# Altium integrated library ON Semi Zener Diodes.IntLib: 1366 symbols (part 6 of 29)
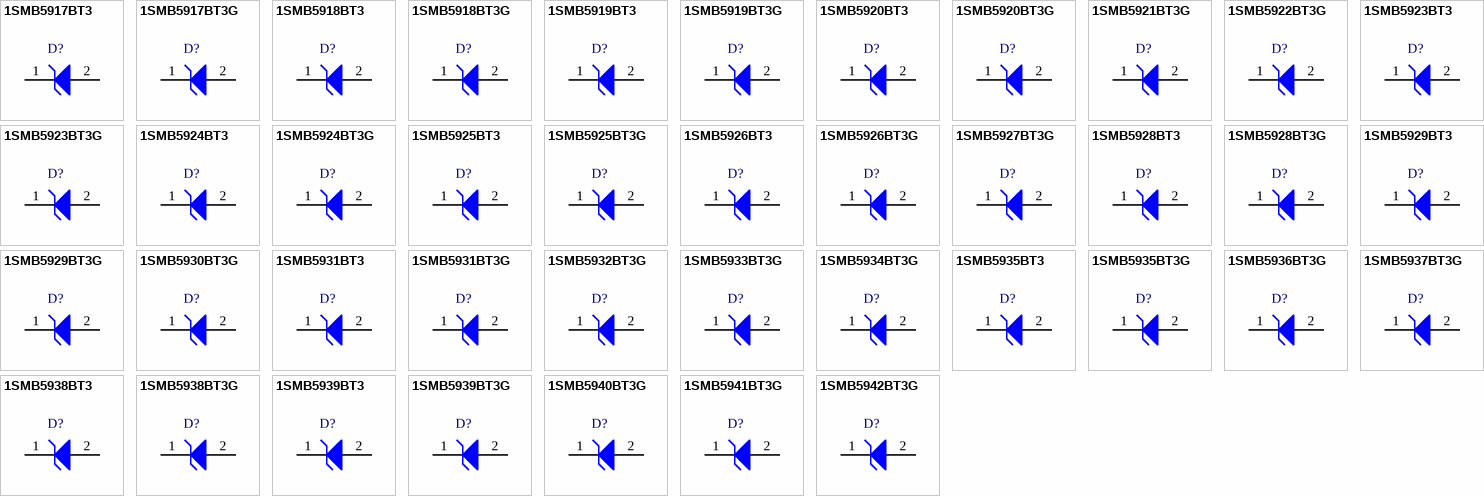
[diagram p49: symbols 1SMB5917BT3 to 1SMB5942BT3G]

## 1SMB5932BT3G
designator D?
3 W Zener Voltage Regulator, 2-Pin SMB, Pb-Free, Tape and Reel; Manufacturer: On Semiconductor; PartNumber: 1SMB5932BT3G; VZ Typ (V): 20; DatasheetVersion: Rev. 8; PackageVersion: Rev. H, 05/2011; PackageReference: SMB-2-403A-03_H; PackageDescription: 2-Pin Small Molded Package, J-Bend Lead, Body 4.33 x 3.625 mm; Supplier 1: Digi-Key; Supplier Part Number 1: 1SMB5932BT3GOSTR-ND; Supplier 2: Digi-Key; Supplier Part Number 2: 1SMB5932BT3GOSCT-ND; Supplier 3: Digi-Key; Supplier Part Number 3: 1SMB5932BT3GOSDKR-ND; Supplier 4: Farnell; Supplier Part Number 4: 1431174RL; Supplier 5: Farnell; Supplier Part Number 5: 1431174; Supplier 6: Newark; Supplier Part Number 6: 42K3097; Supplier 7: Mouser; Supplier Part Number 7: 863-1SMB5932BT3G; Packing: Tape and Reel; RoHS: Pb-Free; Mounting Technology: Surface Mount; ComponentLink1Description: Manufacturer URL; ComponentLink1URL: http://www.onsemi.com/; ComponentLink2Description: Datasheet; ComponentLink2URL: http://www.onsemi.com/pub_link/Collateral/1SMB5913BT3-D.PDF; ComponentLink3Description: Package Specification; ComponentLink3URL: http://www.onsemi.com/pub_link/Collateral/1SMB5913BT3-D.PDF
footprint ONSC-SMB-2-403A-03_H_V (Molded, 2-Leads, Body 4.6x3.95mm)
pins: 1 K, 2 A

## 1SMB5933BT3G
designator D?
3 W Zener Voltage Regulator, 2-Pin SMB, Pb-Free, Tape and Reel; Manufacturer: On Semiconductor; PartNumber: 1SMB5933BT3G; VZ Typ (V): 22; DatasheetVersion: Rev. 8; PackageVersion: Rev. H, 05/2011; PackageReference: SMB-2-403A-03_H; PackageDescription: 2-Pin Small Molded Package, J-Bend Lead, Body 4.33 x 3.625 mm; Supplier 1: Digi-Key; Supplier Part Number 1: 1SMB5933BT3GOSTR-ND; Supplier 2: Digi-Key; Supplier Part Number 2: 1SMB5933BT3GOSCT-ND; Supplier 3: Digi-Key; Supplier Part Number 3: 1SMB5933BT3GOSDKR-ND; Supplier 4: Newark; Supplier Part Number 4: 42K3098; Supplier 5: Mouser; Supplier Part Number 5: 863-1SMB5933BT3G; Packing: Tape and Reel; RoHS: Pb-Free; Mounting Technology: Surface Mount; ComponentLink1Description: Manufacturer URL; ComponentLink1URL: http://www.onsemi.com/; ComponentLink2Description: Datasheet; ComponentLink2URL: http://www.onsemi.com/pub_link/Collateral/1SMB5913BT3-D.PDF; ComponentLink3Description: Package Specification; ComponentLink3URL: http://www.onsemi.com/pub_link/Collateral/1SMB5913BT3-D.PDF
footprint ONSC-SMB-2-403A-03_H_V (Molded, 2-Leads, Body 4.6x3.95mm)
pins: 1 K, 2 A

## 1SMB5934BT3G
designator D?
3 W Zener Voltage Regulator, 2-Pin SMB, Pb-Free, Tape and Reel; Manufacturer: On Semiconductor; PartNumber: 1SMB5934BT3G; VZ Typ (V): 24; DatasheetVersion: Rev. 8; PackageVersion: Rev. H, 05/2011; PackageReference: SMB-2-403A-03_H; PackageDescription: 2-Pin Small Molded Package, J-Bend Lead, Body 4.33 x 3.625 mm; Supplier 1: Digi-Key; Supplier Part Number 1: 1SMB5934BT3GOSTR-ND; Supplier 2: Digi-Key; Supplier Part Number 2: 1SMB5934BT3GOSCT-ND; Supplier 3: Digi-Key; Supplier Part Number 3: 1SMB5934BT3GOSDKR-ND; Supplier 4: Farnell; Supplier Part Number 4: 1431176; Supplier 5: Farnell; Supplier Part Number 5: 2317731; Supplier 6: Farnell; Supplier Part Number 6: 1431176RL; Supplier 7: Newark; Supplier Part Number 7: 67R1412; Supplier 8: Newark; Supplier Part Number 8: 45J2456; Supplier 9: Mouser; Supplier Part Number 9: 863-1SMB5934BT3G; Packing: Tape and Reel; RoHS: Pb-Free; Mounting Technology: Surface Mount; ComponentLink1Description: Manufacturer URL; ComponentLink1URL: http://www.onsemi.com/; ComponentLink2Description: Datasheet; ComponentLink2URL: http://www.onsemi.com/pub_link/Collateral/1SMB5913BT3-D.PDF; ComponentLink3Description: Package Specification; ComponentLink3URL: http://www.onsemi.com/pub_link/Collateral/1SMB5913BT3-D.PDF
footprint ONSC-SMB-2-403A-03_H_V (Molded, 2-Leads, Body 4.6x3.95mm)
pins: 1 K, 2 A

## 1SMB5935BT3
designator D?
3 W Zener Voltage Regulator, 2-Pin SMB, Tape and Reel; Manufacturer: On Semiconductor; PartNumber: 1SMB5935BT3; VZ Typ (V): 27; DatasheetVersion: Rev. 8; PackageVersion: Rev. H, 05/2011; PackageReference: SMB-2-403A-03_H; PackageDescription: 2-Pin Small Molded Package, J-Bend Lead, Body 4.33 x 3.625 mm; Supplier 1: Digi-Key; Supplier Part Number 1: 1SMB5935BT3OSCT-ND; Supplier 2: Digi-Key; Supplier Part Number 2: 1SMB5935BT3OSDKR-ND; Packing: Tape and Reel; Mounting Technology: Surface Mount; ComponentLink1Description: Manufacturer URL; ComponentLink1URL: http://www.onsemi.com/; ComponentLink2Description: Datasheet; ComponentLink2URL: http://www.onsemi.com/pub_link/Collateral/1SMB5913BT3-D.PDF; ComponentLink3Description: Package Specification; ComponentLink3URL: http://www.onsemi.com/pub_link/Collateral/1SMB5913BT3-D.PDF
footprint ONSC-SMB-2-403A-03_H_V (Molded, 2-Leads, Body 4.6x3.95mm)
pins: 1 K, 2 A

## 1SMB5935BT3G
designator D?
3 W Zener Voltage Regulator, 2-Pin SMB, Pb-Free, Tape and Reel; Manufacturer: On Semiconductor; PartNumber: 1SMB5935BT3G; VZ Typ (V): 27; DatasheetVersion: Rev. 8; PackageVersion: Rev. H, 05/2011; PackageReference: SMB-2-403A-03_H; PackageDescription: 2-Pin Small Molded Package, J-Bend Lead, Body 4.33 x 3.625 mm; Supplier 1: Digi-Key; Supplier Part Number 1: 1SMB5935BT3GOSTR-ND; Supplier 2: Digi-Key; Supplier Part Number 2: 1SMB5935BT3GOSCT-ND; Supplier 3: Digi-Key; Supplier Part Number 3: 1SMB5935BT3GOSDKR-ND; Supplier 4: Farnell; Supplier Part Number 4: 1431177; Supplier 5: Farnell; Supplier Part Number 5: 1431177RL; Supplier 6: Newark; Supplier Part Number 6: 45J2457; Supplier 7: Mouser; Supplier Part Number 7: 863-1SMB5935BT3G; Packing: Tape and Reel; RoHS: Pb-Free; Mounting Technology: Surface Mount; ComponentLink1Description: Manufacturer URL; ComponentLink1URL: http://www.onsemi.com/; ComponentLink2Description: Datasheet; ComponentLink2URL: http://www.onsemi.com/pub_link/Collateral/1SMB5913BT3-D.PDF; ComponentLink3Description: Package Specification; ComponentLink3URL: http://www.onsemi.com/pub_link/Collateral/1SMB5913BT3-D.PDF
footprint ONSC-SMB-2-403A-03_H_V (Molded, 2-Leads, Body 4.6x3.95mm)
pins: 1 K, 2 A

## 1SMB5936BT3G
designator D?
3 W Zener Voltage Regulator, 2-Pin SMB, Pb-Free, Tape and Reel; Manufacturer: On Semiconductor; PartNumber: 1SMB5936BT3G; VZ Typ (V): 30; DatasheetVersion: Rev. 8; PackageVersion: Rev. H, 05/2011; PackageReference: SMB-2-403A-03_H; PackageDescription: 2-Pin Small Molded Package, J-Bend Lead, Body 4.33 x 3.625 mm; Supplier 1: Digi-Key; Supplier Part Number 1: 1SMB5936BT3GOSTR-ND; Supplier 2: Digi-Key; Supplier Part Number 2: 1SMB5936BT3GOSCT-ND; Supplier 3: Digi-Key; Supplier Part Number 3: 1SMB5936BT3GOSDKR-ND; Supplier 4: Farnell; Supplier Part Number 4: 1431178RL; Supplier 5: Newark; Supplier Part Number 5: 03P0571; Supplier 6: Newark; Supplier Part Number 6: 45J2458; Supplier 7: Mouser; Supplier Part Number 7: 863-1SMB5936BT3G; Packing: Tape and Reel; RoHS: Pb-Free; Mounting Technology: Surface Mount; ComponentLink1Description: Manufacturer URL; ComponentLink1URL: http://www.onsemi.com/; ComponentLink2Description: Datasheet; ComponentLink2URL: http://www.onsemi.com/pub_link/Collateral/1SMB5913BT3-D.PDF; ComponentLink3Description: Package Specification; ComponentLink3URL: http://www.onsemi.com/pub_link/Collateral/1SMB5913BT3-D.PDF
footprint ONSC-SMB-2-403A-03_H_V (Molded, 2-Leads, Body 4.6x3.95mm)
pins: 1 K, 2 A

## 1SMB5937BT3G
designator D?
3 W Zener Voltage Regulator, 2-Pin SMB, Pb-Free, Tape and Reel; Manufacturer: On Semiconductor; PartNumber: 1SMB5937BT3G; VZ Typ (V): 33; DatasheetVersion: Rev. 8; PackageVersion: Rev. H, 05/2011; PackageReference: SMB-2-403A-03_H; PackageDescription: 2-Pin Small Molded Package, J-Bend Lead, Body 4.33 x 3.625 mm; Supplier 1: Digi-Key; Supplier Part Number 1: 1SMB5937BT3GOSTR-ND; Supplier 2: Digi-Key; Supplier Part Number 2: 1SMB5937BT3GOSCT-ND; Supplier 3: Digi-Key; Supplier Part Number 3: 1SMB5937BT3GOSDKR-ND; Supplier 4: Farnell; Supplier Part Number 4: 1431179; Supplier 5: Farnell; Supplier Part Number 5: 1431179RL; Supplier 6: Farnell; Supplier Part Number 6: 2368412; Supplier 7: Newark; Supplier Part Number 7: 03P0575; Supplier 8: Newark; Supplier Part Number 8: 42K3099; Supplier 9: Mouser; Supplier Part Number 9: 863-1SMB5937BT3G; Packing: Tape and Reel; RoHS: Pb-Free; Mounting Technology: Surface Mount; ComponentLink1Description: Manufacturer URL; ComponentLink1URL: http://www.onsemi.com/; ComponentLink2Description: Datasheet; ComponentLink2URL: http://www.onsemi.com/pub_link/Collateral/1SMB5913BT3-D.PDF; ComponentLink3Description: Package Specification; ComponentLink3URL: http://www.onsemi.com/pub_link/Collateral/1SMB5913BT3-D.PDF
footprint ONSC-SMB-2-403A-03_H_V (Molded, 2-Leads, Body 4.6x3.95mm)
pins: 1 K, 2 A

## 1SMB5938BT3
designator D?
3 W Zener Voltage Regulator, 2-Pin SMB, Tape and Reel; Manufacturer: On Semiconductor; PartNumber: 1SMB5938BT3; VZ Typ (V): 36; DatasheetVersion: Rev. 8; PackageVersion: Rev. H, 05/2011; PackageReference: SMB-2-403A-03_H; PackageDescription: 2-Pin Small Molded Package, J-Bend Lead, Body 4.33 x 3.625 mm; Supplier 1: Digi-Key; Supplier Part Number 1: 1SMB5938BT3OSCT-ND; Supplier 2: Digi-Key; Supplier Part Number 2: 1SMB5938BT3OSDKR-ND; Packing: Tape and Reel; Mounting Technology: Surface Mount; ComponentLink1Description: Manufacturer URL; ComponentLink1URL: http://www.onsemi.com/; ComponentLink2Description: Datasheet; ComponentLink2URL: http://www.onsemi.com/pub_link/Collateral/1SMB5913BT3-D.PDF; ComponentLink3Description: Package Specification; ComponentLink3URL: http://www.onsemi.com/pub_link/Collateral/1SMB5913BT3-D.PDF
footprint ONSC-SMB-2-403A-03_H_V (Molded, 2-Leads, Body 4.6x3.95mm)
pins: 1 K, 2 A

## 1SMB5938BT3G
designator D?
3 W Zener Voltage Regulator, 2-Pin SMB, Pb-Free, Tape and Reel; Manufacturer: On Semiconductor; PartNumber: 1SMB5938BT3G; VZ Typ (V): 36; DatasheetVersion: Rev. 8; PackageVersion: Rev. H, 05/2011; PackageReference: SMB-2-403A-03_H; PackageDescription: 2-Pin Small Molded Package, J-Bend Lead, Body 4.33 x 3.625 mm; Supplier 1: Digi-Key; Supplier Part Number 1: 1SMB5938BT3GOSTR-ND; Supplier 2: Digi-Key; Supplier Part Number 2: 1SMB5938BT3GOSCT-ND; Supplier 3: Digi-Key; Supplier Part Number 3: 1SMB5938BT3GOSDKR-ND; Supplier 4: Farnell; Supplier Part Number 4: 1431180RL; Supplier 5: Farnell; Supplier Part Number 5: 1431180; Supplier 6: Newark; Supplier Part Number 6: 71J9219; Supplier 7: Mouser; Supplier Part Number 7: 863-1SMB5938BT3G; Packing: Tape and Reel; RoHS: Pb-Free; Mounting Technology: Surface Mount; ComponentLink1Description: Manufacturer URL; ComponentLink1URL: http://www.onsemi.com/; ComponentLink2Description: Datasheet; ComponentLink2URL: http://www.onsemi.com/pub_link/Collateral/1SMB5913BT3-D.PDF; ComponentLink3Description: Package Specification; ComponentLink3URL: http://www.onsemi.com/pub_link/Collateral/1SMB5913BT3-D.PDF
footprint ONSC-SMB-2-403A-03_H_V (Molded, 2-Leads, Body 4.6x3.95mm)
pins: 1 K, 2 A

## 1SMB5939BT3
designator D?
3 W Zener Voltage Regulator, 2-Pin SMB, Tape and Reel; Manufacturer: On Semiconductor; PartNumber: 1SMB5939BT3; VZ Typ (V): 39; DatasheetVersion: Rev. 8; PackageVersion: Rev. H, 05/2011; PackageReference: SMB-2-403A-03_H; PackageDescription: 2-Pin Small Molded Package, J-Bend Lead, Body 4.33 x 3.625 mm; Supplier 1: Digi-Key; Supplier Part Number 1: 1SMB5939BT3OSCT-ND; Supplier 2: Digi-Key; Supplier Part Number 2: 1SMB5939BT3OSDKR-ND; Packing: Tape and Reel; Mounting Technology: Surface Mount; ComponentLink1Description: Manufacturer URL; ComponentLink1URL: http://www.onsemi.com/; ComponentLink2Description: Datasheet; ComponentLink2URL: http://www.onsemi.com/pub_link/Collateral/1SMB5913BT3-D.PDF; ComponentLink3Description: Package Specification; ComponentLink3URL: http://www.onsemi.com/pub_link/Collateral/1SMB5913BT3-D.PDF
footprint ONSC-SMB-2-403A-03_H_V (Molded, 2-Leads, Body 4.6x3.95mm)
pins: 1 K, 2 A

## 1SMB5939BT3G
designator D?
3 W Zener Voltage Regulator, 2-Pin SMB, Pb-Free, Tape and Reel; Manufacturer: On Semiconductor; PartNumber: 1SMB5939BT3G; VZ Typ (V): 39; DatasheetVersion: Rev. 8; PackageVersion: Rev. H, 05/2011; PackageReference: SMB-2-403A-03_H; PackageDescription: 2-Pin Small Molded Package, J-Bend Lead, Body 4.33 x 3.625 mm; Supplier 1: Digi-Key; Supplier Part Number 1: 1SMB5939BT3GOSTR-ND; Supplier 2: Digi-Key; Supplier Part Number 2: 1SMB5939BT3GOSCT-ND; Supplier 3: Digi-Key; Supplier Part Number 3: 1SMB5939BT3GOSDKR-ND; Supplier 4: Newark; Supplier Part Number 4: 10N9664; Supplier 5: Mouser; Supplier Part Number 5: 863-1SMB5939BT3G; Packing: Tape and Reel; RoHS: Pb-Free; Mounting Technology: Surface Mount; ComponentLink1Description: Manufacturer URL; ComponentLink1URL: http://www.onsemi.com/; ComponentLink2Description: Datasheet; ComponentLink2URL: http://www.onsemi.com/pub_link/Collateral/1SMB5913BT3-D.PDF; ComponentLink3Description: Package Specification; ComponentLink3URL: http://www.onsemi.com/pub_link/Collateral/1SMB5913BT3-D.PDF
footprint ONSC-SMB-2-403A-03_H_V (Molded, 2-Leads, Body 4.6x3.95mm)
pins: 1 K, 2 A

## 1SMB5940BT3G
designator D?
3 W Zener Voltage Regulator, 2-Pin SMB, Pb-Free, Tape and Reel; Manufacturer: On Semiconductor; PartNumber: 1SMB5940BT3G; VZ Typ (V): 43; DatasheetVersion: Rev. 8; PackageVersion: Rev. H, 05/2011; PackageReference: SMB-2-403A-03_H; PackageDescription: 2-Pin Small Molded Package, J-Bend Lead, Body 4.33 x 3.625 mm; Supplier 1: Digi-Key; Supplier Part Number 1: 1SMB5940BT3GOSTR-ND; Supplier 2: Digi-Key; Supplier Part Number 2: 1SMB5940BT3GOSCT-ND; Supplier 3: Digi-Key; Supplier Part Number 3: 1SMB5940BT3GOSDKR-ND; Supplier 4: Newark; Supplier Part Number 4: 71J9220; Supplier 5: Newark; Supplier Part Number 5: 10N9665; Supplier 6: Mouser; Supplier Part Number 6: 863-1SMB5940BT3G; Packing: Tape and Reel; RoHS: Pb-Free; Mounting Technology: Surface Mount; ComponentLink1Description: Manufacturer URL; ComponentLink1URL: http://www.onsemi.com/; ComponentLink2Description: Datasheet; ComponentLink2URL: http://www.onsemi.com/pub_link/Collateral/1SMB5913BT3-D.PDF; ComponentLink3Description: Package Specification; ComponentLink3URL: http://www.onsemi.com/pub_link/Collateral/1SMB5913BT3-D.PDF
footprint ONSC-SMB-2-403A-03_H_V (Molded, 2-Leads, Body 4.6x3.95mm)
pins: 1 K, 2 A

## 1SMB5941BT3G
designator D?
3 W Zener Voltage Regulator, 2-Pin SMB, Pb-Free, Tape and Reel; Manufacturer: On Semiconductor; PartNumber: 1SMB5941BT3G; VZ Typ (V): 47; DatasheetVersion: Rev. 8; PackageVersion: Rev. H, 05/2011; PackageReference: SMB-2-403A-03_H; PackageDescription: 2-Pin Small Molded Package, J-Bend Lead, Body 4.33 x 3.625 mm; Supplier 1: Digi-Key; Supplier Part Number 1: 1SMB5941BT3GOSTR-ND; Supplier 2: Digi-Key; Supplier Part Number 2: 1SMB5941BT3GOSCT-ND; Supplier 3: Digi-Key; Supplier Part Number 3: 1SMB5941BT3GOSDKR-ND; Supplier 4: Farnell; Supplier Part Number 4: 1431181RL; Supplier 5: Mouser; Supplier Part Number 5: 863-1SMB5941BT3G; Packing: Tape and Reel; RoHS: Pb-Free; Mounting Technology: Surface Mount; ComponentLink1Description: Manufacturer URL; ComponentLink1URL: http://www.onsemi.com/; ComponentLink2Description: Datasheet; ComponentLink2URL: http://www.onsemi.com/pub_link/Collateral/1SMB5913BT3-D.PDF; ComponentLink3Description: Package Specification; ComponentLink3URL: http://www.onsemi.com/pub_link/Collateral/1SMB5913BT3-D.PDF
footprint ONSC-SMB-2-403A-03_H_V (Molded, 2-Leads, Body 4.6x3.95mm)
pins: 1 K, 2 A

## 1SMB5942BT3G
designator D?
3 W Zener Voltage Regulator, 2-Pin SMB, Pb-Free, Tape and Reel; Manufacturer: On Semiconductor; PartNumber: 1SMB5942BT3G; VZ Typ (V): 51; DatasheetVersion: Rev. 8; PackageVersion: Rev. H, 05/2011; PackageReference: SMB-2-403A-03_H; PackageDescription: 2-Pin Small Molded Package, J-Bend Lead, Body 4.33 x 3.625 mm; Supplier 1: Digi-Key; Supplier Part Number 1: 1SMB5942BT3GOSTR-ND; Supplier 2: Digi-Key; Supplier Part Number 2: 1SMB5942BT3GOSCT-ND; Supplier 3: Digi-Key; Supplier Part Number 3: 1SMB5942BT3GOSDKR-ND; Supplier 4: Farnell; Supplier Part Number 4: 1431182; Supplier 5: Farnell; Supplier Part Number 5: 1431182RL; Supplier 6: Newark; Supplier Part Number 6: 71J9221; Supplier 7: Mouser; Supplier Part Number 7: 863-1SMB5942BT3G; Packing: Tape and Reel; RoHS: Pb-Free; Mounting Technology: Surface Mount; ComponentLink1Description: Manufacturer URL; ComponentLink1URL: http://www.onsemi.com/; ComponentLink2Description: Datasheet; ComponentLink2URL: http://www.onsemi.com/pub_link/Collateral/1SMB5913BT3-D.PDF; ComponentLink3Description: Package Specification; ComponentLink3URL: http://www.onsemi.com/pub_link/Collateral/1SMB5913BT3-D.PDF
footprint ONSC-SMB-2-403A-03_H_V (Molded, 2-Leads, Body 4.6x3.95mm)
pins: 1 K, 2 A

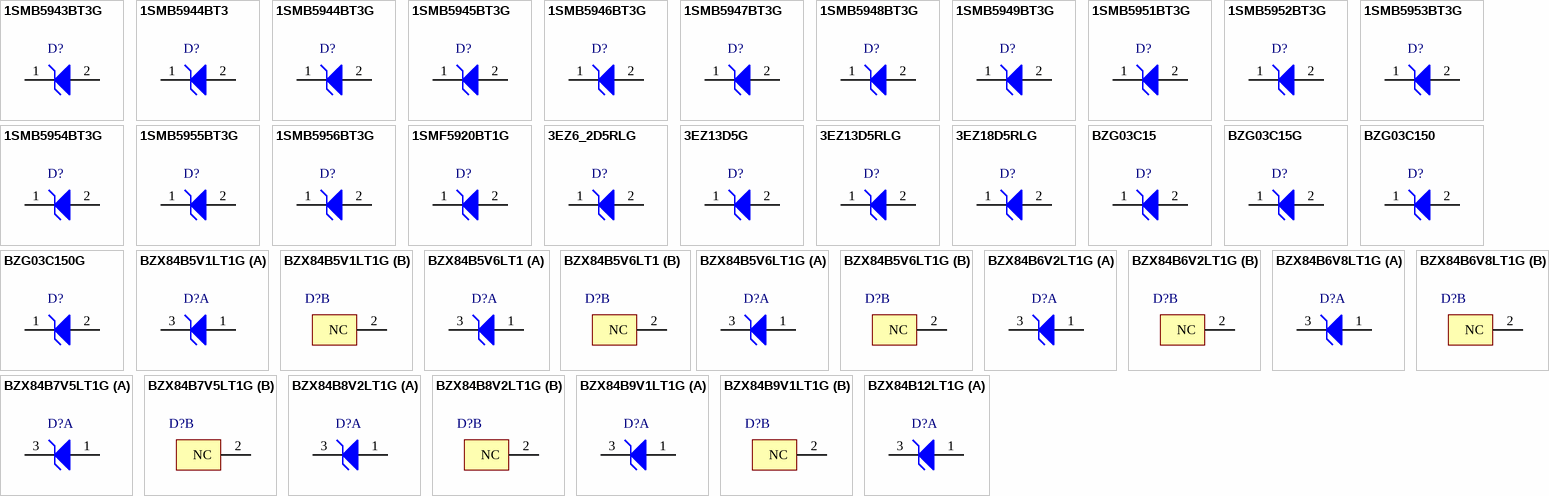
[diagram p6: symbols 1SMB5943BT3G to BZX84B12LT1G]

## 1SMB5943BT3G
designator D?
3 W Zener Voltage Regulator, 2-Pin SMB, Pb-Free, Tape and Reel; Manufacturer: On Semiconductor; PartNumber: 1SMB5943BT3G; VZ Typ (V): 56; DatasheetVersion: Rev. 8; PackageVersion: Rev. H, 05/2011; PackageReference: SMB-2-403A-03_H; PackageDescription: 2-Pin Small Molded Package, J-Bend Lead, Body 4.33 x 3.625 mm; Supplier 1: Digi-Key; Supplier Part Number 1: 1SMB5943BT3GOSTR-ND; Supplier 2: Digi-Key; Supplier Part Number 2: 1SMB5943BT3GOSCT-ND; Supplier 3: Digi-Key; Supplier Part Number 3: 1SMB5943BT3GOSDKR-ND; Supplier 4: Farnell; Supplier Part Number 4: 1431184; Supplier 5: Farnell; Supplier Part Number 5: 1431184RL; Supplier 6: Newark; Supplier Part Number 6: 10N9666; Supplier 7: Newark; Supplier Part Number 7: 45J2459; Supplier 8: Mouser; Supplier Part Number 8: 863-1SMB5943BT3G; Packing: Tape and Reel; RoHS: Pb-Free; Mounting Technology: Surface Mount; ComponentLink1Description: Manufacturer URL; ComponentLink1URL: http://www.onsemi.com/; ComponentLink2Description: Datasheet; ComponentLink2URL: http://www.onsemi.com/pub_link/Collateral/1SMB5913BT3-D.PDF; ComponentLink3Description: Package Specification; ComponentLink3URL: http://www.onsemi.com/pub_link/Collateral/1SMB5913BT3-D.PDF
footprint ONSC-SMB-2-403A-03_H_V (Molded, 2-Leads, Body 4.6x3.95mm)
pins: 1 K, 2 A

## 1SMB5944BT3
designator D?
3 W Zener Voltage Regulator, 2-Pin SMB, Tape and Reel; Manufacturer: On Semiconductor; PartNumber: 1SMB5944BT3; VZ Typ (V): 62; DatasheetVersion: Rev. 8; PackageVersion: Rev. H, 05/2011; PackageReference: SMB-2-403A-03_H; PackageDescription: 2-Pin Small Molded Package, J-Bend Lead, Body 4.33 x 3.625 mm; Supplier 1: Digi-Key; Supplier Part Number 1: 1SMB5944BT3-ND; Packing: Tape and Reel; Mounting Technology: Surface Mount; ComponentLink1Description: Manufacturer URL; ComponentLink1URL: http://www.onsemi.com/; ComponentLink2Description: Datasheet; ComponentLink2URL: http://www.onsemi.com/pub_link/Collateral/1SMB5913BT3-D.PDF; ComponentLink3Description: Package Specification; ComponentLink3URL: http://www.onsemi.com/pub_link/Collateral/1SMB5913BT3-D.PDF
footprint ONSC-SMB-2-403A-03_H_V (Molded, 2-Leads, Body 4.6x3.95mm)
pins: 1 K, 2 A

## 1SMB5944BT3G
designator D?
3 W Zener Voltage Regulator, 2-Pin SMB, Pb-Free, Tape and Reel; Manufacturer: On Semiconductor; PartNumber: 1SMB5944BT3G; VZ Typ (V): 62; DatasheetVersion: Rev. 8; PackageVersion: Rev. H, 05/2011; PackageReference: SMB-2-403A-03_H; PackageDescription: 2-Pin Small Molded Package, J-Bend Lead, Body 4.33 x 3.625 mm; Supplier 1: Digi-Key; Supplier Part Number 1: 1SMB5944BT3GOSTR-ND; Supplier 2: Digi-Key; Supplier Part Number 2: 1SMB5944BT3GOSCT-ND; Supplier 3: Digi-Key; Supplier Part Number 3: 1SMB5944BT3GOSDKR-ND; Supplier 4: Newark; Supplier Part Number 4: 71J9222; Supplier 5: Mouser; Supplier Part Number 5: 863-1SMB5944BT3G; Packing: Tape and Reel; RoHS: Pb-Free; Mounting Technology: Surface Mount; ComponentLink1Description: Manufacturer URL; ComponentLink1URL: http://www.onsemi.com/; ComponentLink2Description: Datasheet; ComponentLink2URL: http://www.onsemi.com/pub_link/Collateral/1SMB5913BT3-D.PDF; ComponentLink3Description: Package Specification; ComponentLink3URL: http://www.onsemi.com/pub_link/Collateral/1SMB5913BT3-D.PDF
footprint ONSC-SMB-2-403A-03_H_V (Molded, 2-Leads, Body 4.6x3.95mm)
pins: 1 K, 2 A

## 1SMB5945BT3G
designator D?
3 W Zener Voltage Regulator, 2-Pin SMB, Pb-Free, Tape and Reel; Manufacturer: On Semiconductor; PartNumber: 1SMB5945BT3G; VZ Typ (V): 68; DatasheetVersion: Rev. 8; PackageVersion: Rev. H, 05/2011; PackageReference: SMB-2-403A-03_H; PackageDescription: 2-Pin Small Molded Package, J-Bend Lead, Body 4.33 x 3.625 mm; Supplier 1: Digi-Key; Supplier Part Number 1: 1SMB5945BT3GOSTR-ND; Supplier 2: Digi-Key; Supplier Part Number 2: 1SMB5945BT3GOSCT-ND; Supplier 3: Digi-Key; Supplier Part Number 3: 1SMB5945BT3GOSDKR-ND; Supplier 4: Newark; Supplier Part Number 4: 10N9667; Supplier 5: Newark; Supplier Part Number 5: 71J9223; Supplier 6: Mouser; Supplier Part Number 6: 863-1SMB5945BT3G; Packing: Tape and Reel; RoHS: Pb-Free; Mounting Technology: Surface Mount; ComponentLink1Description: Manufacturer URL; ComponentLink1URL: http://www.onsemi.com/; ComponentLink2Description: Datasheet; ComponentLink2URL: http://www.onsemi.com/pub_link/Collateral/1SMB5913BT3-D.PDF; ComponentLink3Description: Package Specification; ComponentLink3URL: http://www.onsemi.com/pub_link/Collateral/1SMB5913BT3-D.PDF
footprint ONSC-SMB-2-403A-03_H_V (Molded, 2-Leads, Body 4.6x3.95mm)
pins: 1 K, 2 A

## 1SMB5946BT3G
designator D?
3 W Zener Voltage Regulator, 2-Pin SMB, Pb-Free, Tape and Reel; Manufacturer: On Semiconductor; PartNumber: 1SMB5946BT3G; VZ Typ (V): 75; DatasheetVersion: Rev. 8; PackageVersion: Rev. H, 05/2011; PackageReference: SMB-2-403A-03_H; PackageDescription: 2-Pin Small Molded Package, J-Bend Lead, Body 4.33 x 3.625 mm; Supplier 1: Digi-Key; Supplier Part Number 1: 1SMB5946BT3GOSTR-ND; Supplier 2: Digi-Key; Supplier Part Number 2: 1SMB5946BT3GOSCT-ND; Supplier 3: Digi-Key; Supplier Part Number 3: 1SMB5946BT3GOSDKR-ND; Supplier 4: Farnell; Supplier Part Number 4: 1431185; Supplier 5: Farnell; Supplier Part Number 5: 1431185RL; Supplier 6: Newark; Supplier Part Number 6: 59M4354; Supplier 7: Newark; Supplier Part Number 7: 10N9668; Supplier 8: Mouser; Supplier Part Number 8: 863-1SMB5946BT3G; Packing: Tape and Reel; RoHS: Pb-Free; Mounting Technology: Surface Mount; ComponentLink1Description: Manufacturer URL; ComponentLink1URL: http://www.onsemi.com/; ComponentLink2Description: Datasheet; ComponentLink2URL: http://www.onsemi.com/pub_link/Collateral/1SMB5913BT3-D.PDF; ComponentLink3Description: Package Specification; ComponentLink3URL: http://www.onsemi.com/pub_link/Collateral/1SMB5913BT3-D.PDF
footprint ONSC-SMB-2-403A-03_H_V (Molded, 2-Leads, Body 4.6x3.95mm)
pins: 1 K, 2 A

## 1SMB5947BT3G
designator D?
3 W Zener Voltage Regulator, 2-Pin SMB, Pb-Free, Tape and Reel; Manufacturer: On Semiconductor; PartNumber: 1SMB5947BT3G; VZ Typ (V): 82; DatasheetVersion: Rev. 8; PackageVersion: Rev. H, 05/2011; PackageReference: SMB-2-403A-03_H; PackageDescription: 2-Pin Small Molded Package, J-Bend Lead, Body 4.33 x 3.625 mm; Supplier 1: Digi-Key; Supplier Part Number 1: 1SMB5947BT3GOSTR-ND; Supplier 2: Digi-Key; Supplier Part Number 2: 1SMB5947BT3GOSCT-ND; Supplier 3: Digi-Key; Supplier Part Number 3: 1SMB5947BT3GOSDKR-ND; Supplier 4: Farnell; Supplier Part Number 4: 1887115; Supplier 5: Newark; Supplier Part Number 5: 09R9831; Supplier 6: Newark; Supplier Part Number 6: 71J9224; Supplier 7: Mouser; Supplier Part Number 7: 863-1SMB5947BT3G; Packing: Tape and Reel; RoHS: Pb-Free; Mounting Technology: Surface Mount; ComponentLink1Description: Manufacturer URL; ComponentLink1URL: http://www.onsemi.com/; ComponentLink2Description: Datasheet; ComponentLink2URL: http://www.onsemi.com/pub_link/Collateral/1SMB5913BT3-D.PDF; ComponentLink3Description: Package Specification; ComponentLink3URL: http://www.onsemi.com/pub_link/Collateral/1SMB5913BT3-D.PDF
footprint ONSC-SMB-2-403A-03_H_V (Molded, 2-Leads, Body 4.6x3.95mm)
pins: 1 K, 2 A

## 1SMB5948BT3G
designator D?
3 W Zener Voltage Regulator, 2-Pin SMB, Pb-Free, Tape and Reel; Manufacturer: On Semiconductor; PartNumber: 1SMB5948BT3G; VZ Typ (V): 91; DatasheetVersion: Rev. 8; PackageVersion: Rev. H, 05/2011; PackageReference: SMB-2-403A-03_H; PackageDescription: 2-Pin Small Molded Package, J-Bend Lead, Body 4.33 x 3.625 mm; Supplier 1: Digi-Key; Supplier Part Number 1: 1SMB5948BT3GOSTR-ND; Supplier 2: Digi-Key; Supplier Part Number 2: 1SMB5948BT3GOSCT-ND; Supplier 3: Digi-Key; Supplier Part Number 3: 1SMB5948BT3GOSDKR-ND; Supplier 4: Newark; Supplier Part Number 4: 71J9225; Supplier 5: Mouser; Supplier Part Number 5: 863-1SMB5948BT3G; Packing: Tape and Reel; RoHS: Pb-Free; Mounting Technology: Surface Mount; ComponentLink1Description: Manufacturer URL; ComponentLink1URL: http://www.onsemi.com/; ComponentLink2Description: Datasheet; ComponentLink2URL: http://www.onsemi.cn/pub_link/Collateral/1SMB5913BT3-D.PDF; ComponentLink3Description: Package Specification; ComponentLink3URL: http://www.onsemi.com/pub_link/Collateral/1SMB5913BT3-D.PDF
footprint ONSC-SMB-2-403A-03_H_V (Molded, 2-Leads, Body 4.6x3.95mm)
pins: 1 K, 2 A

## 1SMB5949BT3G
designator D?
3 W Zener Voltage Regulator, 2-Pin SMB, Pb-Free, Tape and Reel; Manufacturer: On Semiconductor; PartNumber: 1SMB5949BT3G; VZ Typ (V): 100; DatasheetVersion: Rev. 8; PackageVersion: Rev. H, 05/2011; PackageReference: SMB-2-403A-03_H; PackageDescription: 2-Pin Small Molded Package, J-Bend Lead, Body 4.33 x 3.625 mm; Supplier 1: Digi-Key; Supplier Part Number 1: 1SMB5949BT3GOSTR-ND; Supplier 2: Digi-Key; Supplier Part Number 2: 1SMB5949BT3GOSCT-ND; Supplier 3: Digi-Key; Supplier Part Number 3: 1SMB5949BT3GOSDKR-ND; Supplier 4: Farnell; Supplier Part Number 4: 1431186RL; Supplier 5: Farnell; Supplier Part Number 5: 1431186; Supplier 6: Newark; Supplier Part Number 6: 71J9226; Supplier 7: Mouser; Supplier Part Number 7: 863-1SMB5949BT3G; Packing: Tape and Reel; RoHS: Pb-Free; Mounting Technology: Surface Mount; ComponentLink1Description: Manufacturer URL; ComponentLink1URL: http://www.onsemi.com/; ComponentLink2Description: Datasheet; ComponentLink2URL: http://www.onsemi.com/pub_link/Collateral/1SMB5913BT3-D.PDF; ComponentLink3Description: Package Specification; ComponentLink3URL: http://www.onsemi.com/pub_link/Collateral/1SMB5913BT3-D.PDF
footprint ONSC-SMB-2-403A-03_H_V (Molded, 2-Leads, Body 4.6x3.95mm)
pins: 1 K, 2 A

## 1SMB5951BT3G
designator D?
3 W Zener Voltage Regulator, 2-Pin SMB, Pb-Free, Tape and Reel; Manufacturer: On Semiconductor; PartNumber: 1SMB5951BT3G; VZ Typ (V): 120; DatasheetVersion: Rev. 8; PackageVersion: Rev. H, 05/2011; PackageReference: SMB-2-403A-03_H; PackageDescription: 2-Pin Small Molded Package, J-Bend Lead, Body 4.33 x 3.625 mm; Supplier 1: Digi-Key; Supplier Part Number 1: 1SMB5951BT3GOSTR-ND; Supplier 2: Digi-Key; Supplier Part Number 2: 1SMB5951BT3GOSCT-ND; Supplier 3: Digi-Key; Supplier Part Number 3: 1SMB5951BT3GOSDKR-ND; Supplier 4: Newark; Supplier Part Number 4: 10N9669; Supplier 5: Newark; Supplier Part Number 5: 45J2460; Supplier 6: Mouser; Supplier Part Number 6: 863-1SMB5951BT3G; Packing: Tape and Reel; RoHS: Pb-Free; Mounting Technology: Surface Mount; ComponentLink1Description: Manufacturer URL; ComponentLink1URL: http://www.onsemi.com/; ComponentLink2Description: Datasheet; ComponentLink2URL: http://www.onsemi.com/pub_link/Collateral/1SMB5913BT3-D.PDF; ComponentLink3Description: Package Specification; ComponentLink3URL: http://www.onsemi.com/pub_link/Collateral/1SMB5913BT3-D.PDF
footprint ONSC-SMB-2-403A-03_H_V (Molded, 2-Leads, Body 4.6x3.95mm)
pins: 1 K, 2 A

## 1SMB5952BT3G
designator D?
3 W Zener Voltage Regulator, 2-Pin SMB, Pb-Free, Tape and Reel; Manufacturer: On Semiconductor; PartNumber: 1SMB5952BT3G; VZ Typ (V): 130; DatasheetVersion: Rev. 8; PackageVersion: Rev. H, 05/2011; PackageReference: SMB-2-403A-03_H; PackageDescription: 2-Pin Small Molded Package, J-Bend Lead, Body 4.33 x 3.625 mm; Supplier 1: Digi-Key; Supplier Part Number 1: 1SMB5952BT3GOSTR-ND; Supplier 2: Digi-Key; Supplier Part Number 2: 1SMB5952BT3GOSCT-ND; Supplier 3: Digi-Key; Supplier Part Number 3: 1SMB5952BT3GOSDKR-ND; Supplier 4: Farnell; Supplier Part Number 4: 1887116; Supplier 5: Newark; Supplier Part Number 5: 09R9833; Supplier 6: Newark; Supplier Part Number 6: 71J9228; Supplier 7: Mouser; Supplier Part Number 7: 863-1SMB5952BT3G; Packing: Tape and Reel; RoHS: Pb-Free; Mounting Technology: Surface Mount; ComponentLink1Description: Manufacturer URL; ComponentLink1URL: http://www.onsemi.com/; ComponentLink2Description: Datasheet; ComponentLink2URL: http://www.onsemi.com/pub_link/Collateral/1SMB5913BT3-D.PDF; ComponentLink3Description: Package Specification; ComponentLink3URL: http://www.onsemi.com/pub_link/Collateral/1SMB5913BT3-D.PDF
footprint ONSC-SMB-2-403A-03_H_V (Molded, 2-Leads, Body 4.6x3.95mm)
pins: 1 K, 2 A

## 1SMB5953BT3G
designator D?
3 W Zener Voltage Regulator, 2-Pin SMB, Pb-Free, Tape and Reel; Manufacturer: On Semiconductor; PartNumber: 1SMB5953BT3G; VZ Typ (V): 150; DatasheetVersion: Rev. 8; PackageVersion: Rev. H, 05/2011; PackageReference: SMB-2-403A-03_H; PackageDescription: 2-Pin Small Molded Package, J-Bend Lead, Body 4.33 x 3.625 mm; Supplier 1: Digi-Key; Supplier Part Number 1: 1SMB5953BT3GOSTR-ND; Supplier 2: Digi-Key; Supplier Part Number 2: 1SMB5953BT3GOSCT-ND; Supplier 3: Digi-Key; Supplier Part Number 3: 1SMB5953BT3GOSDKR-ND; Supplier 4: Newark; Supplier Part Number 4: 45J2461; Supplier 5: Mouser; Supplier Part Number 5: 863-1SMB5953BT3G; Packing: Tape and Reel; RoHS: Pb-Free; Mounting Technology: Surface Mount; ComponentLink1Description: Manufacturer URL; ComponentLink1URL: http://www.onsemi.com/; ComponentLink2Description: Datasheet; ComponentLink2URL: http://www.onsemi.cn/pub_link/Collateral/1SMB5913BT3-D.PDF; ComponentLink3Description: Package Specification; ComponentLink3URL: http://www.onsemi.com/pub_link/Collateral/1SMB5913BT3-D.PDF
footprint ONSC-SMB-2-403A-03_H_V (Molded, 2-Leads, Body 4.6x3.95mm)
pins: 1 K, 2 A

## 1SMB5954BT3G
designator D?
3 W Zener Voltage Regulator, 2-Pin SMB, Pb-Free, Tape and Reel; Manufacturer: On Semiconductor; PartNumber: 1SMB5954BT3G; VZ Typ (V): 160; DatasheetVersion: Rev. 8; PackageVersion: Rev. H, 05/2011; PackageReference: SMB-2-403A-03_H; PackageDescription: 2-Pin Small Molded Package, J-Bend Lead, Body 4.33 x 3.625 mm; Supplier 1: Digi-Key; Supplier Part Number 1: 1SMB5954BT3GOSTR-ND; Supplier 2: Digi-Key; Supplier Part Number 2: 1SMB5954BT3GOSCT-ND; Supplier 3: Digi-Key; Supplier Part Number 3: 1SMB5954BT3GOSDKR-ND; Supplier 4: Farnell; Supplier Part Number 4: 1887118; Supplier 5: Newark; Supplier Part Number 5: 09R9834; Supplier 6: Mouser; Supplier Part Number 6: 863-1SMB5954BT3G; Packing: Tape and Reel; RoHS: Pb-Free; Mounting Technology: Surface Mount; ComponentLink1Description: Manufacturer URL; ComponentLink1URL: http://www.onsemi.com/; ComponentLink2Description: Datasheet; ComponentLink2URL: http://www.onsemi.com/pub_link/Collateral/1SMB5913BT3-D.PDF; ComponentLink3Description: Package Specification; ComponentLink3URL: http://www.onsemi.com/pub_link/Collateral/1SMB5913BT3-D.PDF
footprint ONSC-SMB-2-403A-03_H_V (Molded, 2-Leads, Body 4.6x3.95mm)
pins: 1 K, 2 A

## 1SMB5955BT3G
designator D?
3 W Zener Voltage Regulator, 2-Pin SMB, Pb-Free, Tape and Reel; Manufacturer: On Semiconductor; PartNumber: 1SMB5955BT3G; VZ Typ (V): 180; DatasheetVersion: Rev. 8; PackageVersion: Rev. H, 05/2011; PackageReference: SMB-2-403A-03_H; PackageDescription: 2-Pin Small Molded Package, J-Bend Lead, Body 4.33 x 3.625 mm; Supplier 1: Digi-Key; Supplier Part Number 1: 1SMB5955BT3GOSTR-ND; Supplier 2: Digi-Key; Supplier Part Number 2: 1SMB5955BT3GOSCT-ND; Supplier 3: Digi-Key; Supplier Part Number 3: 1SMB5955BT3GOSDKR-ND; Supplier 4: Farnell; Supplier Part Number 4: 2371147; Supplier 5: Newark; Supplier Part Number 5: 10N9670; Supplier 6: Mouser; Supplier Part Number 6: 863-1SMB5955BT3G; Packing: Tape and Reel; RoHS: Pb-Free; Mounting Technology: Surface Mount; ComponentLink1Description: Manufacturer URL; ComponentLink1URL: http://www.onsemi.com/; ComponentLink2Description: Datasheet; ComponentLink2URL: http://www.onsemi.com/pub_link/Collateral/1SMB5913BT3-D.PDF; ComponentLink3Description: Package Specification; ComponentLink3URL: http://www.onsemi.com/pub_link/Collateral/1SMB5913BT3-D.PDF
footprint ONSC-SMB-2-403A-03_H_V (Molded, 2-Leads, Body 4.6x3.95mm)
pins: 1 K, 2 A

## 1SMB5956BT3G
designator D?
3 W Zener Voltage Regulator, 2-Pin SMB, Pb-Free, Tape and Reel; Manufacturer: On Semiconductor; PartNumber: 1SMB5956BT3G; VZ Typ (V): 200; DatasheetVersion: Rev. 8; PackageVersion: Rev. H, 05/2011; PackageReference: SMB-2-403A-03_H; PackageDescription: 2-Pin Small Molded Package, J-Bend Lead, Body 4.33 x 3.625 mm; Supplier 1: Digi-Key; Supplier Part Number 1: 1SMB5956BT3GOSTR-ND; Supplier 2: Digi-Key; Supplier Part Number 2: 1SMB5956BT3GOSCT-ND; Supplier 3: Digi-Key; Supplier Part Number 3: 1SMB5956BT3GOSDKR-ND; Supplier 4: Farnell; Supplier Part Number 4: 1431189; Supplier 5: Farnell; Supplier Part Number 5: 1431189RL; Supplier 6: Newark; Supplier Part Number 6: 83H7918; Supplier 7: Mouser; Supplier Part Number 7: 863-1SMB5956BT3G; Packing: Tape and Reel; RoHS: Pb-Free; Mounting Technology: Surface Mount; ComponentLink1Description: Manufacturer URL; ComponentLink1URL: http://www.onsemi.com/; ComponentLink2Description: Datasheet; ComponentLink2URL: http://www.onsemi.com/pub_link/Collateral/1SMB5913BT3-D.PDF; ComponentLink3Description: Package Specification; ComponentLink3URL: http://www.onsemi.com/pub_link/Collateral/1SMB5913BT3-D.PDF
footprint ONSC-SMB-2-403A-03_H_V (Molded, 2-Leads, Body 4.6x3.95mm)
pins: 1 K, 2 A

## 1SMF5920BT1G
designator D?
2.5 W Zener Diode, 2-Pin SOD123, Pb-Free, Tape and Reel; Manufacturer: On Semiconductor; PartNumber: 1SMF5920BT1G; VZ Typ (V): 6.2; DatasheetVersion: Rev. P0; PackageVersion: Rev. A; PackageReference: SOD-123-2-498_A; PackageDescription: 2-Pin SOD, Body 1.65 x 2.7 mm; Supplier 1: Digi-Key; Supplier Part Number 1: 1SMF5920BT1G-ND; Supplier 2: Mouser; Supplier Part Number 2: 863-1SMF5920BT1G; Packing: Tape and Reel; RoHS: Pb-Free; Mounting Technology: Surface Mount; ComponentLink1Description: Manufacturer URL; ComponentLink1URL: http://www.onsemi.com/; ComponentLink2Description: Datasheet; ComponentLink2URL: http://www.onsemi.cn/pub_link/Collateral/1SMF5920B-D.PDF; ComponentLink3Description: Package Specification; ComponentLink3URL: http://www.onsemi.cn/pub_link/Collateral/1SMF5920B-D.PDF
footprint ONSC-SOD123-2-498_A_V (SOD, 2-Leads, Body 2.7x1.65mm)
pins: 1 K, 2 A

## 3EZ6_2D5RLG
designator D?
3 W Zener Voltage Regulator, 2-Pin Axial_Lead, Pb-Free, Tape and Reel; Manufacturer: On Semiconductor; PartNumber: 3EZ6_2D5RLG; VZ Typ (V): 6.2; DatasheetVersion: Rev. 0; PackageVersion: Rev. U, 02/2005; PackageReference: AXIAL_LEAD-2-59-10; PackageDescription: 2-Pin, Axial Lead, Diameter 2.35 mm; Packing: Tape and Reel; RoHS: Pb-Free; Mounting Technology: Through Hole; ComponentLink1Description: Manufacturer URL; ComponentLink1URL: http://www.onsemi.com/; ComponentLink2Description: Datasheet; ComponentLink2URL: http://www.onsemi.com/pub_link/Collateral/3EZ6.2D5-D.PDF; ComponentLink3Description: Package Specification; ComponentLink3URL: http://www.onsemi.cn/pub_link/Collateral/59-10.PDF
footprint ONSC-AXIAL_LEAD-2-59-10_P (AXIAL, 2-Leads, Diameter 2.35mm)
pins: 1 K, 2 A

## 3EZ13D5G
designator D?
3 W Zener Voltage Regulator, 2-Pin Axial_Lead, Pb-Free, Bulk Box; Manufacturer: On Semiconductor; PartNumber: 3EZ13D5G; VZ Typ (V): 13; DatasheetVersion: Rev. 0; PackageVersion: Rev. U, 02/2005; PackageReference: AXIAL_LEAD-2-59-10; PackageDescription: 2-Pin, Axial Lead, Diameter 2.35 mm; Supplier 1: Digi-Key; Supplier Part Number 1: 3EZ13D5G-ND; Supplier 2: Newark; Supplier Part Number 2: 42K3199; Supplier 3: Mouser; Supplier Part Number 3: 863-3EZ13D5G; Packing: Bulk Box; RoHS: Pb-Free; Mounting Technology: Through Hole; ComponentLink1Description: Manufacturer URL; ComponentLink1URL: http://www.onsemi.com/; ComponentLink2Description: Datasheet; ComponentLink2URL: http://www.onsemi.com/pub_link/Collateral/3EZ6.2D5-D.PDF; ComponentLink3Description: Package Specification; ComponentLink3URL: http://www.onsemi.cn/pub_link/Collateral/59-10.PDF
footprint ONSC-AXIAL_LEAD-2-59-10_P (AXIAL, 2-Leads, Diameter 2.35mm)
pins: 1 K, 2 A

## 3EZ13D5RLG
designator D?
3 W Zener Voltage Regulator, 2-Pin Axial_Lead, Pb-Free, Tape and Reel; Manufacturer: On Semiconductor; PartNumber: 3EZ13D5RLG; VZ Typ (V): 13; DatasheetVersion: Rev. 0; PackageVersion: Rev. U, 02/2005; PackageReference: AXIAL_LEAD-2-59-10; PackageDescription: 2-Pin, Axial Lead, Diameter 2.35 mm; Supplier 1: Digi-Key; Supplier Part Number 1: 3EZ13D5RLG-ND; Supplier 2: Mouser; Supplier Part Number 2: 863-3EZ13D5RLG; Packing: Tape and Reel; RoHS: Pb-Free; Mounting Technology: Through Hole; ComponentLink1Description: Manufacturer URL; ComponentLink1URL: http://www.onsemi.com/; ComponentLink2Description: Datasheet; ComponentLink2URL: http://www.onsemi.com/pub_link/Collateral/3EZ6.2D5-D.PDF; ComponentLink3Description: Package Specification; ComponentLink3URL: http://www.onsemi.cn/pub_link/Collateral/59-10.PDF
footprint ONSC-AXIAL_LEAD-2-59-10_P (AXIAL, 2-Leads, Diameter 2.35mm)
pins: 1 K, 2 A

## 3EZ18D5RLG
designator D?
3 W Zener Voltage Regulator, 2-Pin Axial_Lead, Pb-Free, Tape and Reel; Manufacturer: On Semiconductor; PartNumber: 3EZ18D5RLG; VZ Typ (V): 18; DatasheetVersion: Rev. 0; PackageVersion: Rev. U, 02/2005; PackageReference: AXIAL_LEAD-2-59-10; PackageDescription: 2-Pin, Axial Lead, Diameter 2.35 mm; Supplier 1: Digi-Key; Supplier Part Number 1: 3EZ18D5RLGOSTR-ND; Supplier 2: Digi-Key; Supplier Part Number 2: 3EZ18D5RLGOSCT-ND; Supplier 3: Mouser; Supplier Part Number 3: 863-3EZ18D5RLG; Packing: Tape and Reel; RoHS: Pb-Free; Mounting Technology: Through Hole; ComponentLink1Description: Manufacturer URL; ComponentLink1URL: http://www.onsemi.com/; ComponentLink2Description: Datasheet; ComponentLink2URL: http://www.onsemi.com/pub_link/Collateral/3EZ6.2D5-D.PDF; ComponentLink3Description: Package Specification; ComponentLink3URL: http://www.onsemi.cn/pub_link/Collateral/59-10.PDF
footprint ONSC-AXIAL_LEAD-2-59-10_P (AXIAL, 2-Leads, Diameter 2.35mm)
pins: 1 K, 2 A

## BZG03C15
designator D?
600 W Peak Power Zener Surge Rated Voltage Regulator, 2-Pin SMA, Tape and Reel; Manufacturer: On Semiconductor; PartNumber: BZG03C15; P Max (W): 1.5; VZ Typ (V): 15; DatasheetVersion: Rev. 4; PackageVersion: Rev. G, 07/2012; PackageReference: SMA-2-403D-02; PackageDescription: 2-Pin Small Molded Package, J-Bend Lead, Body 2.605 x 4.315 mm; Supplier 1: Digi-Key; Supplier Part Number 1: BZG03C15OSTR-ND; Supplier 2: Digi-Key; Supplier Part Number 2: BZG03C15OSCT-ND; Supplier 3: Digi-Key; Supplier Part Number 3: BZG03C15OSDKR-ND; Packing: Tape and Reel; Mounting Technology: Surface Mount; ComponentLink1Description: Manufacturer URL; ComponentLink1URL: http://www.onsemi.com/; ComponentLink2Description: Datasheet; ComponentLink2URL: http://www.onsemi.com/pub_link/Collateral/BZG03C15-D.PDF; ComponentLink3Description: Package Specification; ComponentLink3URL: http://www.onsemi.com/pub_link/Collateral/403D-02.PDF
footprint ONSC-SMA-2-403D-02_V (Molded, 2-Leads, Body 4.57x2.92mm)
pins: 1 K, 2 A

## BZG03C15G
designator D?
600 W Peak Power Zener Surge Rated Voltage Regulator, 2-Pin SMA, Pb-Free, Tape and Reel; Manufacturer: On Semiconductor; PartNumber: BZG03C15G; P Max (W): 1.5; VZ Typ (V): 15; DatasheetVersion: Rev. 4; PackageVersion: Rev. C, 08/2005; PackageReference: SMA-2-403D-02_C; PackageDescription: 2-Pin Small Molded Package, J-Bend Lead, Body 4.315 x 2.605 mm; Supplier 1: Digi-Key; Supplier Part Number 1: BZG03C15GOSTR-ND; Supplier 2: Digi-Key; Supplier Part Number 2: BZG03C15GOSCT-ND; Supplier 3: Digi-Key; Supplier Part Number 3: BZG03C15GOSDKR-ND; Supplier 4: Newark; Supplier Part Number 4: 10N9694; Supplier 5: Newark; Supplier Part Number 5: 45J0629; Supplier 6: Mouser; Supplier Part Number 6: 863-BZG03C15G; Packing: Tape and Reel; RoHS: Pb-Free; Mounting Technology: Surface Mount; ComponentLink1Description: Manufacturer URL; ComponentLink1URL: http://www.onsemi.com/; ComponentLink2Description: Datasheet; ComponentLink2URL: http://www.onsemi.com/pub_link/Collateral/BZG03C15-D.PDF; ComponentLink3Description: Package Specification; ComponentLink3URL: http://www.onsemi.com/pub_link/Collateral/MBRA320-D.PDF
footprint ONSC-SMA-2-403D-02_C_V (Molded, 2-Leads, Body 4.57x2.92mm)
pins: 1 K, 2 A

## BZG03C150
designator D?
600 W Peak Power Zener Surge Rated Voltage Regulator, 2-Pin SMA, Tape and Reel; Manufacturer: On Semiconductor; PartNumber: BZG03C150; P Max (W): 1.5; VZ Typ (V): 150; DatasheetVersion: Rev. 4; PackageVersion: Rev. G, 07/2012; PackageReference: SMA-2-403D-02; PackageDescription: 2-Pin Small Molded Package, J-Bend Lead, Body 2.605 x 4.315 mm; Supplier 1: Digi-Key; Supplier Part Number 1: BZG03C150OSTR-ND; Supplier 2: Digi-Key; Supplier Part Number 2: BZG03C150OSCT-ND; Supplier 3: Digi-Key; Supplier Part Number 3: BZG03C150OSDKR-ND; Packing: Tape and Reel; Mounting Technology: Surface Mount; ComponentLink1Description: Manufacturer URL; ComponentLink1URL: http://www.onsemi.com/; ComponentLink2Description: Datasheet; ComponentLink2URL: http://www.onsemi.com/pub_link/Collateral/BZG03C15-D.PDF; ComponentLink3Description: Package Specification; ComponentLink3URL: http://www.onsemi.com/pub_link/Collateral/403D-02.PDF
footprint ONSC-SMA-2-403D-02_V (Molded, 2-Leads, Body 4.57x2.92mm)
pins: 1 K, 2 A

## BZG03C150G
designator D?
600 W Peak Power Zener Surge Rated Voltage Regulator, 2-Pin SMA, Pb-Free, Tape and Reel; Manufacturer: On Semiconductor; PartNumber: BZG03C150G; P Max (W): 1.5; VZ Typ (V): 150; DatasheetVersion: Rev. 4; PackageVersion: Rev. G, 07/2012; PackageReference: SMA-2-403D-02; PackageDescription: 2-Pin Small Molded Package, J-Bend Lead, Body 2.605 x 4.315 mm; Supplier 1: Digi-Key; Supplier Part Number 1: BZG03C150GOSTR-ND; Supplier 2: Digi-Key; Supplier Part Number 2: BZG03C150GOSCT-ND; Supplier 3: Digi-Key; Supplier Part Number 3: BZG03C150GOSDKR-ND; Supplier 4: Farnell; Supplier Part Number 4: 2369428; Supplier 5: Newark; Supplier Part Number 5: 45J0630; Supplier 6: Newark; Supplier Part Number 6: 10N9695; Supplier 7: Mouser; Supplier Part Number 7: 863-BZG03C150G; Packing: Tape and Reel; RoHS: Pb-Free; Mounting Technology: Surface Mount; ComponentLink1Description: Manufacturer URL; ComponentLink1URL: http://www.onsemi.com/; ComponentLink2Description: Datasheet; ComponentLink2URL: http://www.onsemi.com/pub_link/Collateral/BZG03C15-D.PDF; ComponentLink3Description: Package Specification; ComponentLink3URL: http://www.onsemi.com/pub_link/Collateral/403D-02.PDF
footprint ONSC-SMA-2-403D-02_V (Molded, 2-Leads, Body 4.57x2.92mm)
pins: 1 K, 2 A

## BZX84B5V1LT1G
designator D?
Zener Voltage Regulator, 225 mW, 3-Pin SOT-23, Pb-Free, Tape and Reel; Manufacturer: On Semiconductor; PartNumber: BZX84B5V1LT1G; VZ Typ (V): 5.1; DatasheetVersion: Rev. 17; PackageVersion: Rev. AP, 11/2009; PackageReference: SOT-23-3-318-08; PackageDescription: 3-Pin Small Outline Transistor, Body 2.92 x 1.3 mm, Pitch 0.95 mm; Supplier 1: Digi-Key; Supplier Part Number 1: BZX84B5V1LT1GOSTR-ND; Supplier 2: Digi-Key; Supplier Part Number 2: BZX84B5V1LT1GOSCT-ND; Supplier 3: Digi-Key; Supplier Part Number 3: BZX84B5V1LT1GOSDKR-ND; Supplier 4: Newark; Supplier Part Number 4: 10N9393; Supplier 5: Newark; Supplier Part Number 5: 71J3484; Supplier 6: Mouser; Supplier Part Number 6: 863-BZX84B5V1LT1G; Packing: Tape and Reel; RoHS: Pb-Free; Mounting Technology: Surface Mount; ComponentLink1Description: Manufacturer URL; ComponentLink1URL: http://www.onsemi.com/; ComponentLink2Description: Datasheet; ComponentLink2URL: http://www.onsemi.com/pub_link/Collateral/BZX84C2V4LT1-D.PDF; ComponentLink3Description: Package Specification; ComponentLink3URL: http://www.onsemi.cn/pub_link/Collateral/318-08.PDF
footprint ONSC-SOT-23-3-318-08_V (SOT23, 3-Leads, Body 2.92x1.3mm, Pitch 0.95mm)
part A pins: 1 A, 3 K
part B pins: 2 NC

## BZX84B5V6LT1
designator D?
Zener Voltage Regulator, 225 mW, 3-Pin SOT-23, Tape and Reel; Manufacturer: On Semiconductor; PartNumber: BZX84B5V6LT1; VZ Typ (V): 5.6; DatasheetVersion: Rev. 17; PackageVersion: Rev. AP, 11/2009; PackageReference: SOT-23-3-318-08; PackageDescription: 3-Pin Small Outline Transistor, Body 2.92 x 1.3 mm, Pitch 0.95 mm; Supplier 1: Digi-Key; Supplier Part Number 1: BZX84B5V6LT1OSTR-ND; Supplier 2: Digi-Key; Supplier Part Number 2: BZX84B5V6LT1OSCT-ND; Supplier 3: Mouser; Supplier Part Number 3: 863-BZX84B5V6LT1; Packing: Tape and Reel; Mounting Technology: Surface Mount; ComponentLink1Description: Manufacturer URL; ComponentLink1URL: http://www.onsemi.com/; ComponentLink2Description: Datasheet; ComponentLink2URL: http://www.onsemi.com/pub_link/Collateral/BZX84C2V4LT1-D.PDF; ComponentLink3Description: Package Specification; ComponentLink3URL: http://www.onsemi.cn/pub_link/Collateral/318-08.PDF
footprint ONSC-SOT-23-3-318-08_V (SOT23, 3-Leads, Body 2.92x1.3mm, Pitch 0.95mm)
part A pins: 1 A, 3 K
part B pins: 2 NC

## BZX84B5V6LT1G
designator D?
Zener Voltage Regulator, 225 mW, 3-Pin SOT-23, Pb-Free, Tape and Reel; Manufacturer: On Semiconductor; PartNumber: BZX84B5V6LT1G; VZ Typ (V): 5.6; DatasheetVersion: Rev. 17; PackageVersion: Rev. AP, 11/2009; PackageReference: SOT-23-3-318-08; PackageDescription: 3-Pin Small Outline Transistor, Body 2.92 x 1.3 mm, Pitch 0.95 mm; Supplier 1: Digi-Key; Supplier Part Number 1: BZX84B5V6LT1GOSTR-ND; Supplier 2: Digi-Key; Supplier Part Number 2: BZX84B5V6LT1GOSCT-ND; Supplier 3: Digi-Key; Supplier Part Number 3: BZX84B5V6LT1GOSDKR-ND; Supplier 4: Farnell; Supplier Part Number 4: 2317756; Supplier 5: Farnell; Supplier Part Number 5: 2317475; Supplier 6: Newark; Supplier Part Number 6: 41K9635; Supplier 7: Newark; Supplier Part Number 7: 10N9394; Supplier 8: Mouser; Supplier Part Number 8: 863-BZX84B5V6LT1G; Packing: Tape and Reel; RoHS: Pb-Free; Mounting Technology: Surface Mount; ComponentLink1Description: Manufacturer URL; ComponentLink1URL: http://www.onsemi.com/; ComponentLink2Description: Datasheet; ComponentLink2URL: http://www.onsemi.com/pub_link/Collateral/BZX84C2V4LT1-D.PDF; ComponentLink3Description: Package Specification; ComponentLink3URL: http://www.onsemi.cn/pub_link/Collateral/318-08.PDF
footprint ONSC-SOT-23-3-318-08_V (SOT23, 3-Leads, Body 2.92x1.3mm, Pitch 0.95mm)
part A pins: 1 A, 3 K
part B pins: 2 NC

## BZX84B6V2LT1G
designator D?
Zener Voltage Regulator, 225 mW, 3-Pin SOT-23, Pb-Free, Tape and Reel; Manufacturer: On Semiconductor; PartNumber: BZX84B6V2LT1G; VZ Typ (V): 6.2; DatasheetVersion: Rev. 17; PackageVersion: Rev. AP, 11/2009; PackageReference: SOT-23-3-318-08; PackageDescription: 3-Pin Small Outline Transistor, Body 2.92 x 1.3 mm, Pitch 0.95 mm; Supplier 1: Digi-Key; Supplier Part Number 1: BZX84B6V2LT1GOSTR-ND; Supplier 2: Digi-Key; Supplier Part Number 2: BZX84B6V2LT1GOSCT-ND; Supplier 3: Digi-Key; Supplier Part Number 3: BZX84B6V2LT1GOSDKR-ND; Supplier 4: Newark; Supplier Part Number 4: 45J0631; Supplier 5: Mouser; Supplier Part Number 5: 863-BZX84B6V2LT1G; Packing: Tape and Reel; RoHS: Pb-Free; Mounting Technology: Surface Mount; ComponentLink1Description: Manufacturer URL; ComponentLink1URL: http://www.onsemi.com/; ComponentLink2Description: Datasheet; ComponentLink2URL: http://www.onsemi.com/pub_link/Collateral/BZX84C2V4LT1-D.PDF; ComponentLink3Description: Package Specification; ComponentLink3URL: http://www.onsemi.cn/pub_link/Collateral/318-08.PDF
footprint ONSC-SOT-23-3-318-08_V (SOT23, 3-Leads, Body 2.92x1.3mm, Pitch 0.95mm)
part A pins: 1 A, 3 K
part B pins: 2 NC

## BZX84B6V8LT1G
designator D?
Zener Voltage Regulator, 225 mW, 3-Pin SOT-23, Pb-Free, Tape and Reel; Manufacturer: On Semiconductor; PartNumber: BZX84B6V8LT1G; VZ Typ (V): 6.8; DatasheetVersion: Rev. 17; PackageVersion: Rev. AP, 11/2009; PackageReference: SOT-23-3-318-08; PackageDescription: 3-Pin Small Outline Transistor, Body 2.92 x 1.3 mm, Pitch 0.95 mm; Supplier 1: Digi-Key; Supplier Part Number 1: BZX84B6V8LT1GOSTR-ND; Supplier 2: Digi-Key; Supplier Part Number 2: BZX84B6V8LT1GOSCT-ND; Supplier 3: Digi-Key; Supplier Part Number 3: BZX84B6V8LT1GOSDKR-ND; Supplier 4: Newark; Supplier Part Number 4: 10N9395; Supplier 5: Mouser; Supplier Part Number 5: 863-BZX84B6V8LT1G; Packing: Tape and Reel; RoHS: Pb-Free; Mounting Technology: Surface Mount; ComponentLink1Description: Manufacturer URL; ComponentLink1URL: http://www.onsemi.com/; ComponentLink2Description: Datasheet; ComponentLink2URL: http://www.onsemi.com/pub_link/Collateral/BZX84C2V4LT1-D.PDF; ComponentLink3Description: Package Specification; ComponentLink3URL: http://www.onsemi.cn/pub_link/Collateral/318-08.PDF
footprint ONSC-SOT-23-3-318-08_V (SOT23, 3-Leads, Body 2.92x1.3mm, Pitch 0.95mm)
part A pins: 1 A, 3 K
part B pins: 2 NC

## BZX84B7V5LT1G
designator D?
Zener Voltage Regulator, 225 mW, 3-Pin SOT-23, Pb-Free, Tape and Reel; Manufacturer: On Semiconductor; PartNumber: BZX84B7V5LT1G; VZ Typ (V): 7.5; DatasheetVersion: Rev. 17; PackageVersion: Rev. AP, 11/2009; PackageReference: SOT-23-3-318-08; PackageDescription: 3-Pin Small Outline Transistor, Body 2.92 x 1.3 mm, Pitch 0.95 mm; Supplier 1: Digi-Key; Supplier Part Number 1: BZX84B7V5LT1GOSTR-ND; Supplier 2: Digi-Key; Supplier Part Number 2: BZX84B7V5LT1GOSCT-ND; Supplier 3: Mouser; Supplier Part Number 3: 863-BZX84B7V5LT1G; Packing: Tape and Reel; RoHS: Pb-Free; Mounting Technology: Surface Mount; ComponentLink1Description: Manufacturer URL; ComponentLink1URL: http://www.onsemi.com/; ComponentLink2Description: Datasheet; ComponentLink2URL: http://www.onsemi.com/pub_link/Collateral/BZX84C2V4LT1-D.PDF; ComponentLink3Description: Package Specification; ComponentLink3URL: http://www.onsemi.cn/pub_link/Collateral/318-08.PDF
footprint ONSC-SOT-23-3-318-08_V (SOT23, 3-Leads, Body 2.92x1.3mm, Pitch 0.95mm)
part A pins: 1 A, 3 K
part B pins: 2 NC